# Altium schematic symbol library BFP620.SchLib: 1 symbol
Pins are listed as number, name and electrical type; pins without a type are passive.

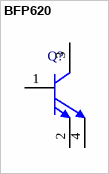
[diagram p0: symbol BFP620]

## BFP620
designator Q?
NPN Silicon Germanium RF Transistor, 2.3 V VCEO, 80 mA IC, 21.5 dB Gmax, SOT343, Green; Manufacturer: Infineon; PartNumber: BFP620; Gmax (typ): 21.5 dB; Green: yes; Group: Ultra low noise SiGe; IC (max): 80 mA; NFmin (typ): 0.7 dB; Ptot (max): 185 mW; VCEO (max): 2.3 V; DatasheetVersion: Sep-2010; PackageReference: SOT343; PackageDescription: 4-Pin Small Outline Transistor Package, 1.25 x 2 mm Body; Supplier 1: Mouser; Supplier Part Number 1: N/A; Halogen-free: yes; Mounting Technology: Surface Mount; ComponentLink1Description: Manufacturer URL; ComponentLink1URL: http://www.infineon.com/; ComponentLink2Description: Datasheet; ComponentLink2URL: http://www.infineon.com/dgdl/bfp620.pdf?folderId=db3a30431400ef68011425b291f205c5&fileId=db3a30431400ef680114274deb27072a&location=en.Products.RF.RF_Transistors_.Ultra_Low_Noise_SiGe_C_Transistors_for_use_up_to_12_GHz.DATASHEET.bfp620.pdf; ComponentLink3Description: Package Specification; ComponentLink3URL: http://www.infineon.com/dgdl/SOT343-Package_Overview.pdf?folderId=db3a30431936bc4b0119535155343cba&fileId=db3a30431936bc4b0119535a9f393cd3
footprint INF-SOT343_V (SOT343, 4-Leads, Body 2x1.25 mm)
pins: 1 B, 2 E, 3 C, 4 E